# Altium schematic symbol library Schlib.SchLib: 2 symbols
Pins are listed as number, name and electrical type; pins without a type are passive.

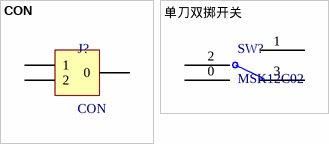
[diagram p0: symbols CON to 单刀双掷开关]

## CON
designator J?
直流电机接口
footprint CONN-SMD_2P-P1.25
pins: 0, 1, 2

## 单刀双掷开关
designator SW?, comment MSK12C02
footprint MSK12C02
pins: 0 (power), 1 (power), 2 (power), 3 (power)